# EAGLE library part MSP430FR2433IRGER (library MSP430FR2433IRGER)
16 MHz Ultra-Low-Power Microcontroller with 16 KB FRAM, 4 KB RAM, 10-bit ADC, 19 IO, 4 16-bit Timers Source: Datasheet <http://www.ti.com/lit/ds/symlink/msp430fr2433.pdf>
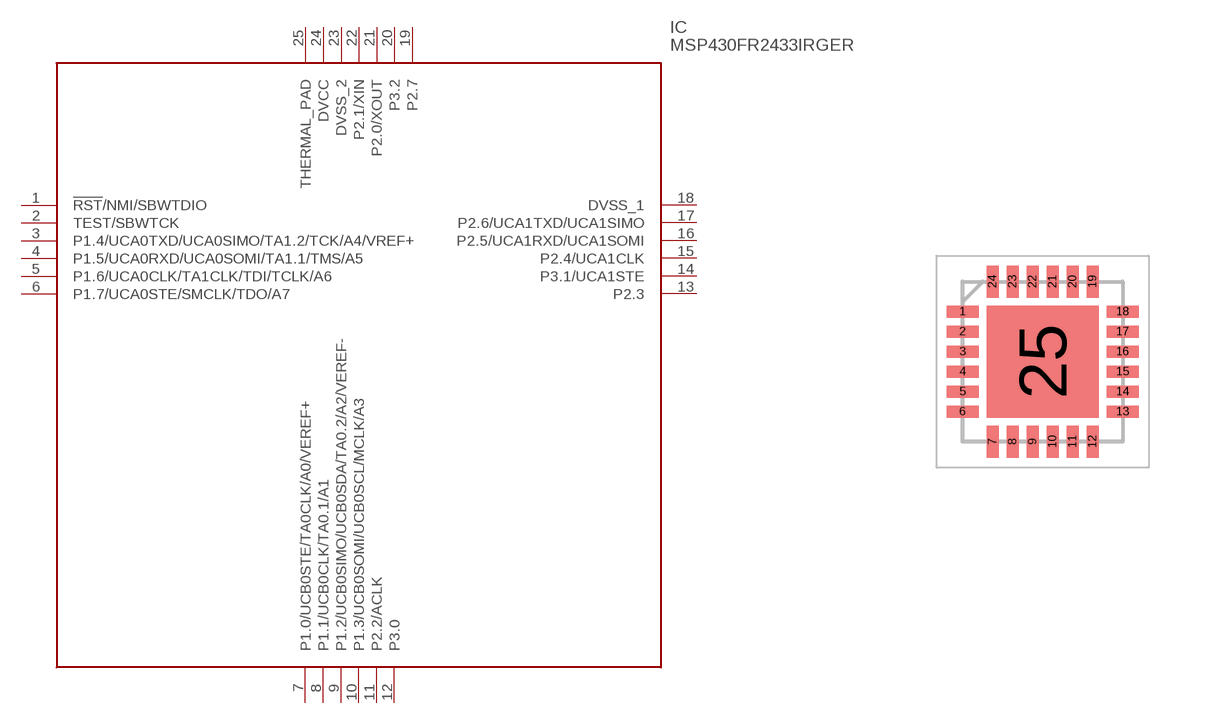
[diagram p0: symbol with the pads of QFN50P400X400X100-25N; footprint QFN50P400X400X100-25N]

Designator prefix IC

## MSP430FR2433IRGER (Description: 16 MHz Ultra-Low-Power Microcontroller with 16 KB FRAM, 4 KB RAM, 10-bit ADC, 19 IO, 4 16-bit Timers; Height: 1mm; Manufacturer_Name: Texas Instruments; Manufacturer_Part_Number: MSP430FR2433IRGER; Mouser_Part_Number: 595-SP430FR2433IRGER; Mouser_Price-Stock: https://www.mouser.com/Search/Refine.aspx?Keyword=595-SP430FR2433IRGER)  [QFN50P400X400X100-25N]
1  !RST!/NMI/SBWTDIO
2  TEST/SBWTCK
3  P1.4/UCA0TXD/UCA0SIMO/TA1.2/TCK/A4/VREF+
4  P1.5/UCA0RXD/UCA0SOMI/TA1.1/TMS/A5
5  P1.6/UCA0CLK/TA1CLK/TDI/TCLK/A6
6  P1.7/UCA0STE/SMCLK/TDO/A7
7  P1.0/UCB0STE/TA0CLK/A0/VEREF+
8  P1.1/UCB0CLK/TA0.1/A1
9  P1.2/UCB0SIMO/UCB0SDA/TA0.2/A2/VEREF-
10  P1.3/UCB0SOMI/UCB0SCL/MCLK/A3
11  P2.2/ACLK
12  P3.0
13  P2.3
14  P3.1/UCA1STE
15  P2.4/UCA1CLK
16  P2.5/UCA1RXD/UCA1SOMI
17  P2.6/UCA1TXD/UCA1SIMO
18  DVSS_1
19  P2.7
20  P3.2
21  P2.0/XOUT
22  P2.1/XIN
23  DVSS_2
24  DVCC
25  THERMAL_PAD

## Footprint QFN50P400X400X100-25N (pad centres in mm)
RGE (S-PVQFN-N24)_2
smd 0.8 x 0.3: 1 -2,1.25; 2 -2,0.75; 3 -2,0.25; 4 -2,-0.25; 5 -2,-0.75; 6 -2,-1.25; 13 2,-1.25; 14 2,-0.75; 15 2,-0.25; 16 2,0.25; 17 2,0.75; 18 2,1.25
smd 0.3 x 0.8: 7 -1.25,-2; 8 -0.75,-2; 9 -0.25,-2; 10 0.25,-2; 11 0.75,-2; 12 1.25,-2; 19 1.25,2; 20 0.75,2; 21 0.25,2; 22 -0.25,2; 23 -0.75,2; 24 -1.25,2
smd 2.8 x 2.8: 25 0,0